# Altium schematic symbol library Connectors.SchLib: 89 symbols (part 2 of 2)
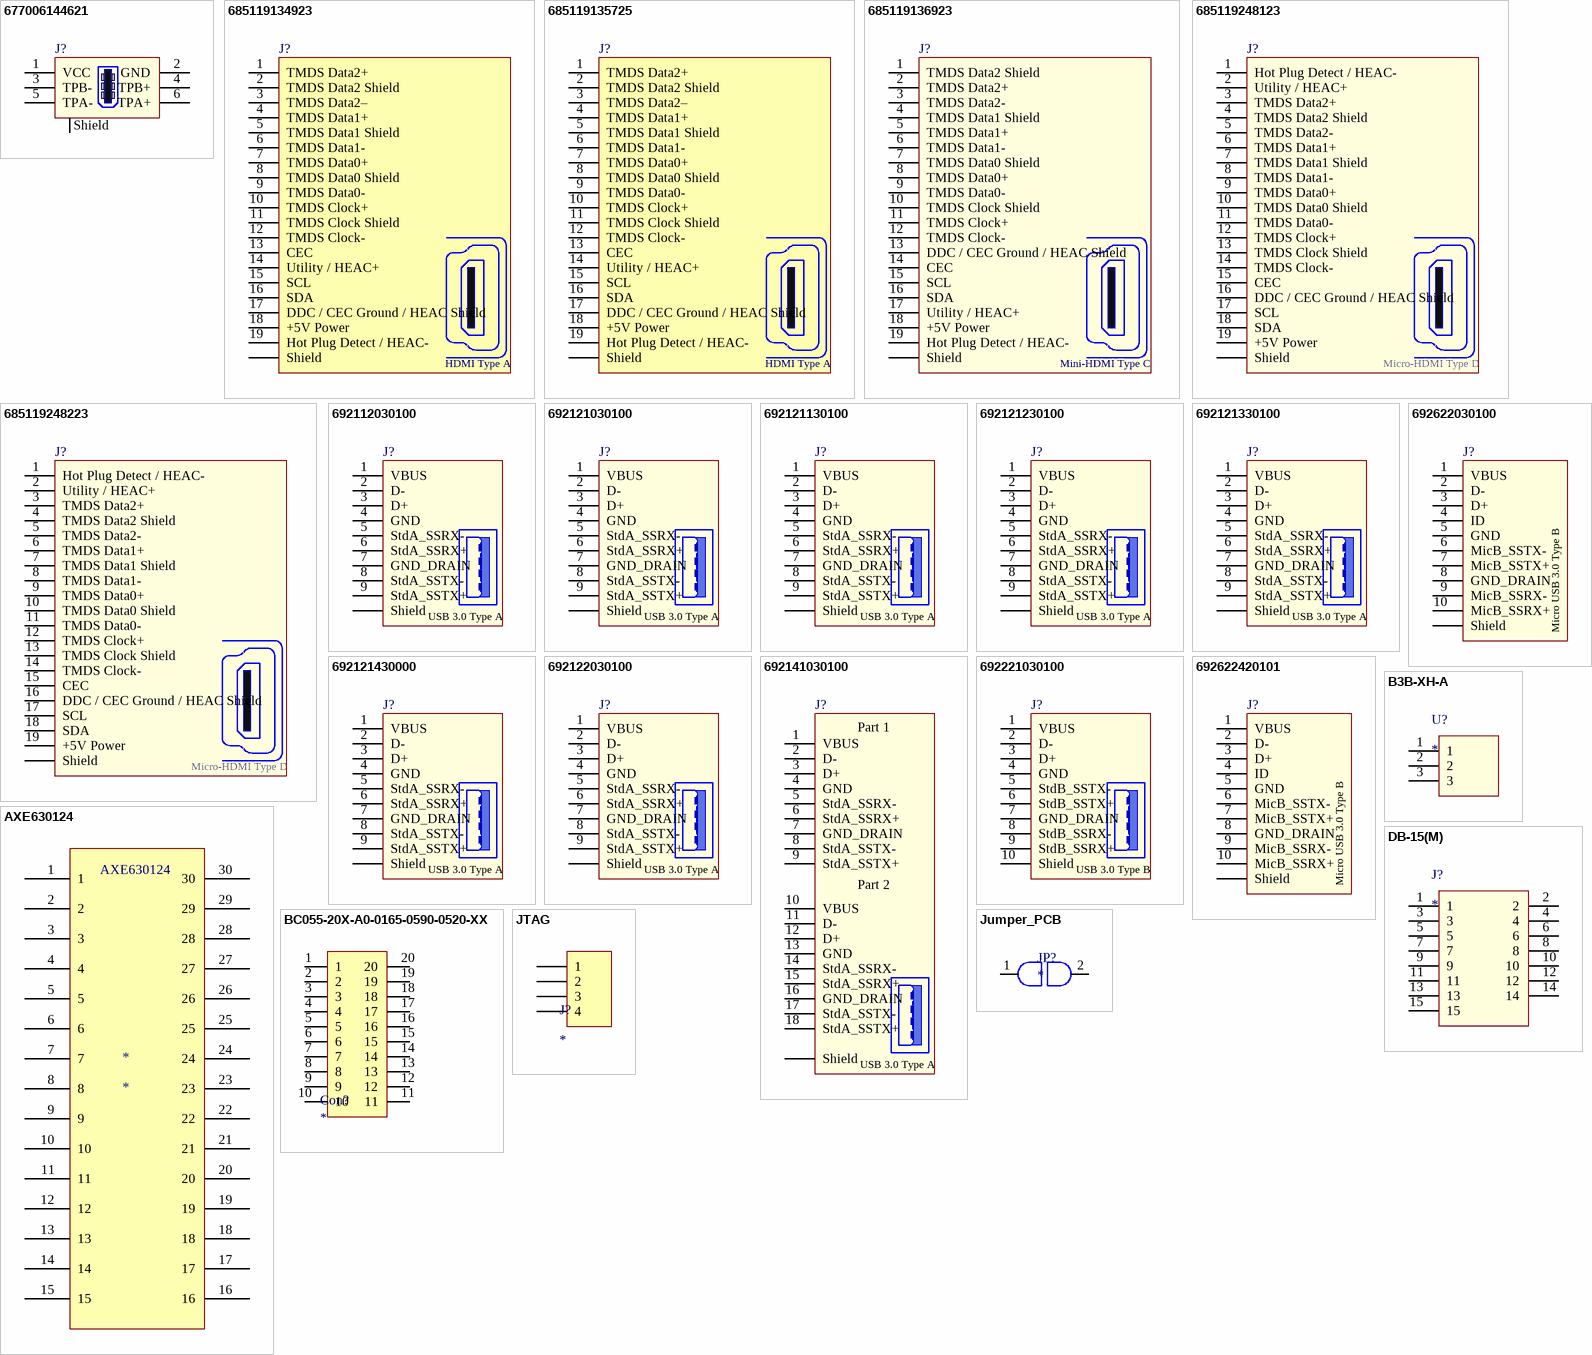
[diagram p3: symbols 677006144621 to Jumper_PCB]

## 692121130100
designator J?
USB 3.0 Type A Reverse Horizontal w. Offset 0.14mm WR-COM; Part Number: 692121130100; Interface Type: Type A; Sub-Family: USB 3.0; Gender: Receptacle; ComponentLink1Description: Manufacturer; ComponentLink1URL: http://www.we-online.de; ComponentLink2Description: Datasheet; ComponentLink2URL: http://katalog.we-online.de/em/datasheet/692121130100.pdf; Published Date: April 2017; Publisher: Wurth Elektronik; Type: Reserve Horizontal; Construction: Construction
footprint 692121130100
pins: 1 VBUS, 2 D-, 3 D+, 4 GND, 5 StdA_SSRX-, 6 StdA_SSRX+, 7 GND_DRAIN, 8 StdA_SSTX-, 9 StdA_SSTX+, Shell Shield
text: USB 3.0 Type A

## 692121230100
designator J?
USB 3.0 Type A Horizontal with Offset 1.04mm WR-COM; Part Number: 692121230100; Interface Type: Type A; Sub-Family: USB 3.0; Gender: Receptacle; ComponentLink1Description: Manufacturer; ComponentLink1URL: http://www.we-online.de; ComponentLink2Description: Datasheet; ComponentLink2URL: http://katalog.we-online.de/em/datasheet/692121230100.pdf; Published Date: April 2017; Publisher: Wurth Elektronik; Type: Horizontal; Construction: THR
footprint 692121230100
pins: 1 VBUS, 2 D-, 3 D+, 4 GND, 5 StdA_SSRX-, 6 StdA_SSRX+, 7 GND_DRAIN, 8 StdA_SSTX-, 9 StdA_SSTX+, Shell Shield
text: USB 3.0 Type A

## 692121330100
designator J?
USB 3.0 Type A Reverse Horizontal with Offset 1.75mm WR-COM; Part Number: 692121330100; Interface Type: Type A; Sub-Family: USB 3.0; Gender: Receptacle; ComponentLink1Description: Manufacturer; ComponentLink1URL: http://www.we-online.de; ComponentLink2Description: Datasheet; ComponentLink2URL: http://katalog.we-online.de/em/datasheet/692121330100.pdf; Published Date: April 2017; Publisher: Wurth Elektronik; Type: Reserve Horizontal; Construction: THR
footprint 692121330100
pins: 1 VBUS, 2 D-, 3 D+, 4 GND, 5 StdA_SSRX-, 6 StdA_SSRX+, 7 GND_DRAIN, 8 StdA_SSTX-, 9 StdA_SSTX+, Shell Shield
text: USB 3.0 Type A

## 692121430000
designator J?
USB 3.0 Type A Vertical THT WR-COM; Part Number: 692121430000; Interface Type: Type A; Sub-Family: USB 3.0; Gender: Receptacle; ComponentLink1Description: Manufacturer; ComponentLink1URL: http://www.we-online.de; ComponentLink2Description: Datasheet; ComponentLink2URL: http://katalog.we-online.de/em/datasheet/692121430000.pdf; Published Date: April 2017; Publisher: Wurth Elektronik; Type: Vertical; Construction: THT
footprint 692121430000
pins: 1 VBUS, 2 D-, 3 D+, 4 GND, 5 StdA_SSRX-, 6 StdA_SSRX+, 7 GND_DRAIN, 8 StdA_SSTX-, 9 StdA_SSTX+, Shell Shield
text: USB 3.0 Type A

## 692122030100
designator J?
USB 3.0 Type A Horizontal SMD WR-COM; Part Number: 692122030100; Interface Type: Type A; Sub-Family: USB 3.0; Gender: Receptacle; ComponentLink1Description: Manufacturer; ComponentLink1URL: http://www.we-online.de; ComponentLink2Description: Datasheet; ComponentLink2URL: http://katalog.we-online.de/em/datasheet/692122030100.pdf; Published Date: April 2017; Publisher: Wurth Elektronik; Type: Horizontal; Construction: SMT
footprint 692122030100
pins: 1 VBUS, 2 D-, 3 D+, 4 GND, 5 StdA_SSRX-, 6 StdA_SSRX+, 7 GND_DRAIN, 8 StdA_SSTX-, 9 StdA_SSTX+, Shell Shield
text: USB 3.0 Type A

## 692141030100
designator J?
USB 3.0 Type A Stacked WR-COM; Part Number: 692141030100; Interface Type: Type A; Sub-Family: USB 3.0; Gender: Receptacle; ComponentLink1Description: Manufacturer; ComponentLink1URL: http://www.we-online.de; ComponentLink2Description: Datasheet; ComponentLink2URL: http://katalog.we-online.de/em/datasheet/692141030100.pdf; Published Date: April 2017; Publisher: Wurth Elektronik; Type: Stacked Horizontal; Construction: THR
footprint 692141030100
pins: 1 VBUS, 2 D-, 3 D+, 4 GND, 5 StdA_SSRX-, 6 StdA_SSRX+, 7 GND_DRAIN, 8 StdA_SSTX-, 9 StdA_SSTX+, 10 VBUS, 11 D-, 12 D+, 13 GND, 14 StdA_SSRX-, 15 StdA_SSRX+, 16 GND_DRAIN, 17 StdA_SSTX-, 18 StdA_SSTX+, Shell Shield
text: Part 1; Part 2; USB 3.0 Type A

## 692221030100
designator J?
USB 3.0 Type B Horizontal WR-COM; Part Number: 692221030100; Interface Type: Type B; Sub-Family: USB 3.0; Gender: Receptacle; ComponentLink1Description: Manufacturer; ComponentLink1URL: http://www.we-online.de; ComponentLink2Description: Datasheet; ComponentLink2URL: http://katalog.we-online.de/em/datasheet/692221030100.pdf; Published Date: April 2017; Publisher: Wurth Elektronik; Type: Horizontal; Construction: THT
footprint USB-3 Type_B
pins: 1 VBUS, 2 D-, 3 D+, 4 GND, 5 StdB_SSTX-, 6 StdB_SSTX+, 7 GND_DRAIN, 8 StdB_SSRX-, 9 StdB_SSRX+, 10 Shield
text: USB 3.0 Type B

## 692622030100
designator J?
Micro USB 3.0 Type B Horizontal SMT WR-COM; Part Number: 692622030100; Interface Type: Type B; Gender: Receptacle; ComponentLink1Description: Manufacturer; ComponentLink1URL: http://www.we-online.de; ComponentLink2Description: Datasheet; ComponentLink2URL: http://katalog.we-online.de/em/datasheet/692622030100.pdf; Published Date: April 2017; Publisher: Wurth Elektronik; Sub-Family: Micro USB 3.0; Type: Horizontal; Construction: SMT
footprint 692622030100
pins: 1 VBUS, 2 D-, 3 D+, 4 ID, 5 GND, 6 MicB_SSTX-, 7 MicB_SSTX+, 8 GND_DRAIN, 9 MicB_SSRX-, 10 MicB_SSRX+, Shell Shield
text: Micro USB 3.0 Type B

## 692622420101
designator J?
Micro USB 3.0 Type B Vertical SMT WR-COM; Part Number: 692622420101; Interface Type: Type B; Gender: Receptacle; ComponentLink1Description: Manufacturer; ComponentLink1URL: http://www.we-online.de; ComponentLink2Description: Datasheet; ComponentLink2URL: http://katalog.we-online.de/em/datasheet/692622420101.pdf; Published Date: April 2017; Publisher: Wurth Elektronik; Sub-Family: Micro USB 3.0; Type: Vertical; Construction: SMT
footprint 692622420101
pins: 1 VBUS, 2 D-, 3 D+, 4 ID, 5 GND, 6 MicB_SSTX-, 7 MicB_SSTX+, 8 GND_DRAIN, 9 MicB_SSRX-, 10 MicB_SSRX+, Shell Shield
text: Micro USB 3.0 Type B

## AXE630124
designator *
footprint AXE630124
pins: 1, 2, 3, 4, 5, 6, 7, 8, 9, 10, 11, 12, 13, 14, 15, 16, 17, 18, 19, 20, 21, 22, 23, 24, 25, 26, 27, 28, 29, 30

## B3B-XH-A
designator U?
footprint B3B-XH-A
pins: 1, 2, 3

## BC055-20X-A0-0165-0590-0520-XX
designator Con?
footprint BC055-20X-A0-0165-0590-0520-XX
pins: 1, 2, 3, 4, 5, 6, 7, 8, 9, 10, 11, 12, 13, 14, 15, 16, 17, 18, 19, 20

## DB-15(M)
designator J?
footprint DB-15_M
pins: 1, 2, 3, 4, 5, 6, 7, 8, 9, 10, 11, 12, 13, 14, 15

## JTAG
designator J?
footprint HDR1X4 (Connector; Header; 4 Position)
pins: 1, 2, 3, 4

## Jumper_PCB
designator JP?
footprint Jumper_PCB
footprint Jumper_PCB_Sig
pins: 1, 2